# Altium schematic symbol library Module.SchLib: 24 symbols
Pins are listed as number, name and electrical type; pins without a type are passive.

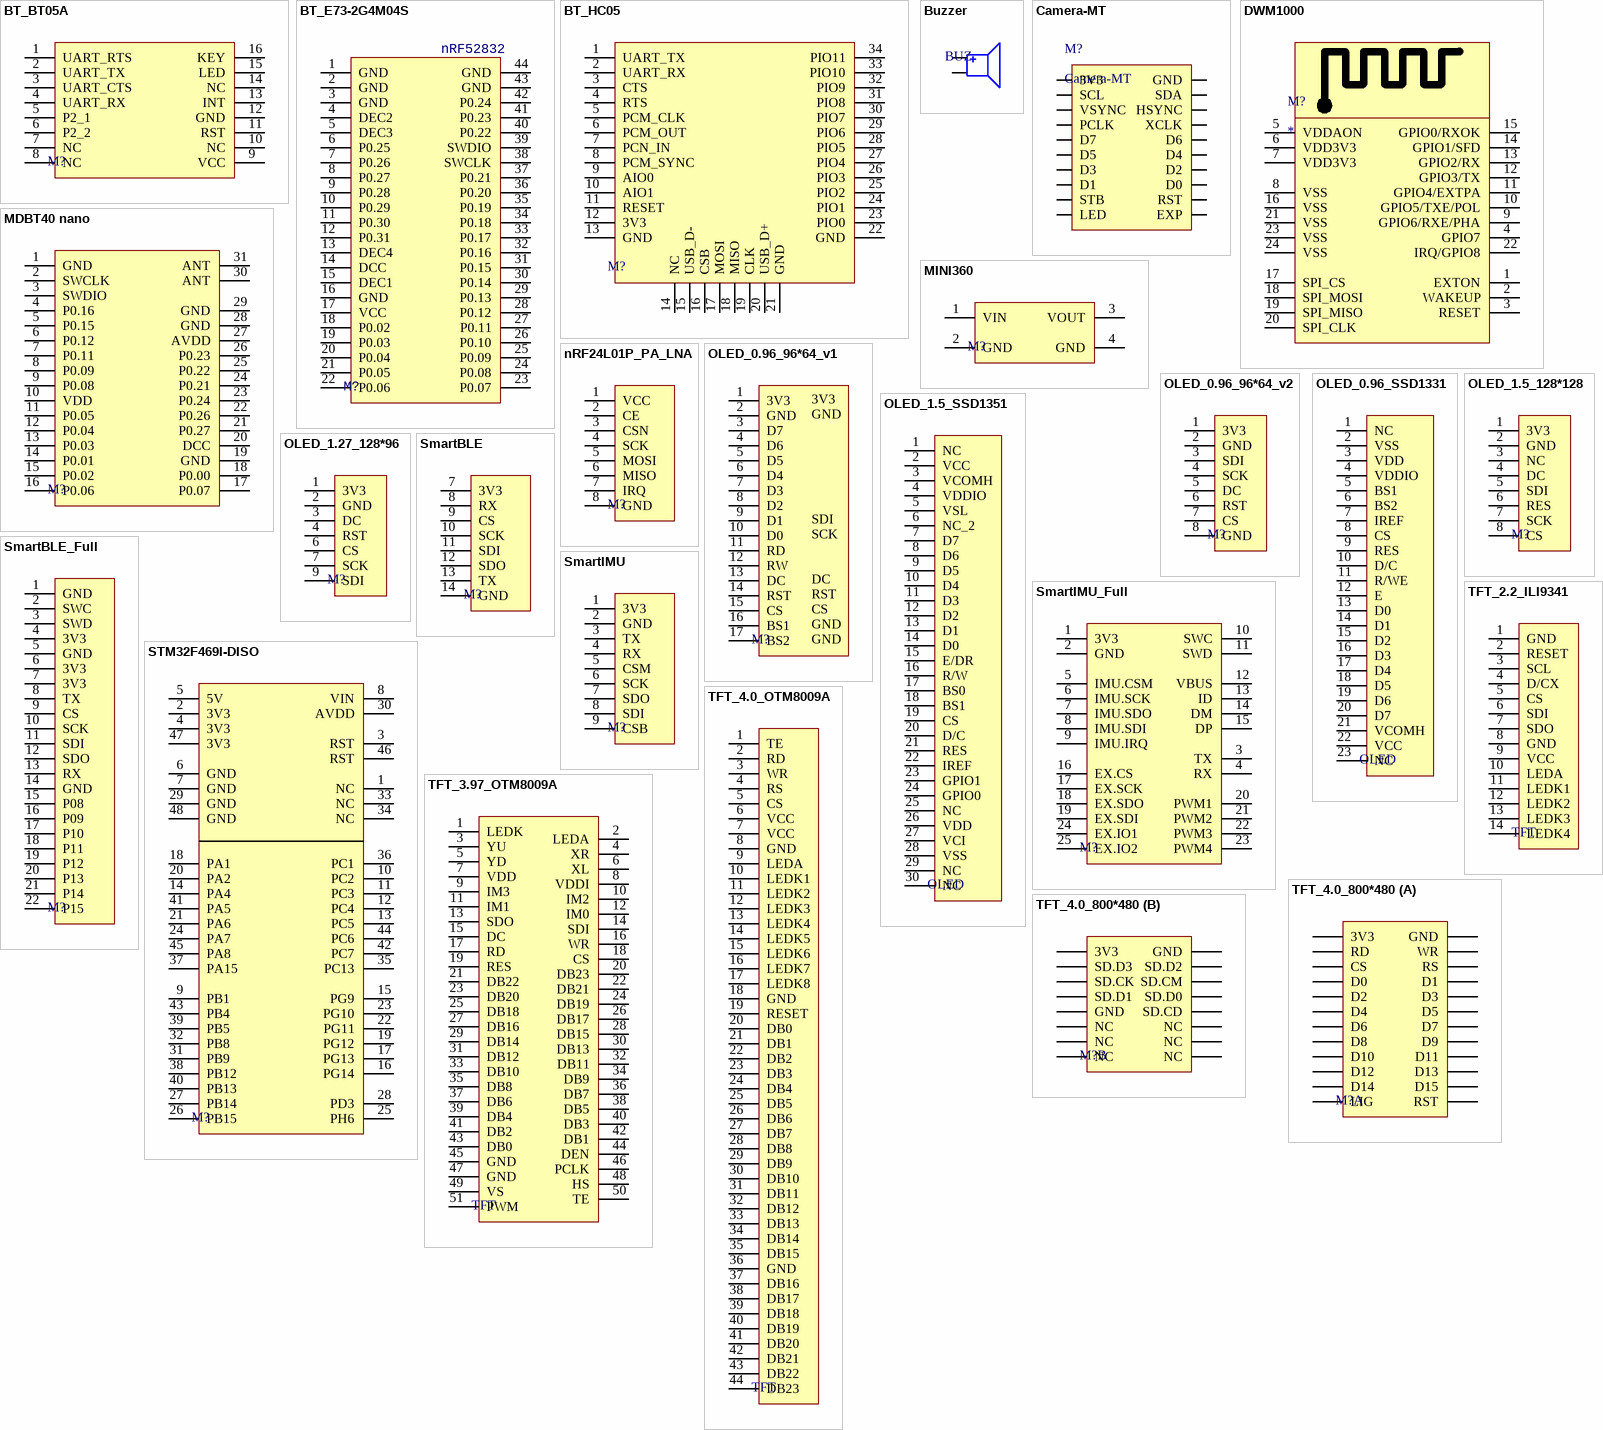
[diagram p0: symbols BT_BT05A to TFT_4.0_OTM8009A]

## BT_BT05A
designator M?  (value not drawn)
Module
footprint BT_BT05A
pins: 1 UART_RTS, 2 UART_TX, 3 UART_CTS, 4 UART_RX, 5 P2_1, 6 P2_2, 7 NC, 8 NC, 9 VCC, 10 NC, 11 RST, 12 GND, 13 INT, 14 NC, 15 LED, 16 KEY

## BT_E73-2G4M04S
designator M?  value nRF52832  (hidden comment: BT_E73-2G4M04S)
Module
footprint E73-2G4M04S
pins: 1 GND, 2 GND, 3 GND, 4 DEC2, 5 DEC3, 6 P0.25, 7 P0.26, 8 P0.27, 9 P0.28, 10 P0.29, 11 P0.30, 12 P0.31, 13 DEC4, 14 DCC, 15 DEC1, 16 GND, 17 VCC, 18 P0.02, 19 P0.03, 20 P0.04, 21 P0.05, 22 P0.06, 23 P0.07, 24 P0.08, 25 P0.09, 26 P0.10, 27 P0.11, 28 P0.12, 29 P0.13, 30 P0.14, 31 P0.15, 32 P0.16, 33 P0.17, 34 P0.18, 35 P0.19, 36 P0.20, 37 P0.21, 38 SWCLK, 39 SWDIO, 40 P0.22, 41 P0.23, 42 P0.24, 43 GND, 44 GND

## BT_HC05
designator M?  (value not drawn)
Module
footprint BT_HC05
pins: 1 UART_TX, 2 UART_RX, 3 CTS, 4 RTS, 5 PCM_CLK, 6 PCM_OUT, 7 PCN_IN, 8 PCM_SYNC, 9 AIO0, 10 AIO1, 11 RESET, 12 3V3, 13 GND, 14 NC, 15 USB_D-, 16 CSB, 17 MOSI, 18 MISO, 19 CLK, 20 USB_D+, 21 GND, 22 GND, 23 PIO0, 24 PIO1, 25 PIO2, 26 PIO3, 27 PIO4, 28 PIO5, 29 PIO6, 30 PIO7, 31 PIO8, 32 PIO9, 33 PIO10, 34 PIO11

## Buzzer
designator BUZ  (value not drawn)
footprint Buzzer_5x5
pins: N Negative, P Positive

## Camera-MT
designator M?
Module
footprint Camera-MT
pins: 1 3V3, 2 GND, 3 SCL, 4 SDA, 5 VSYNC, 6 HSYNC, 7 PCLK, 8 XCLK, 9 D7, 10 D6, 11 D5, 12 D4, 13 D3, 14 D2, 15 D1, 16 D0, 17 STB, 18 RST, 19 LED, 20 EXP

## DWM1000
designator M?
Module; Manufacturer: Decawave Limited; Manufacturer Part Number: DWM1000; Frequency: 3.5GHz ~ 6.5GHz; Data Rate: 6.8Mbps; Serial Interfaces: SPI; Antenna Type: Integrated, Chip; Voltage - Supply: 2.8 V ~ 3.6 V; Current - Receiving: 64mA; Current - Transmitting: 31mA; Supplier 1: Digi-Key; RoHS: RoHS Compliant; Category: RF/IF and RFID; Stock 1: 1028; Pricing 1: 1=32.16, 10=26.704, 100=24.24, 250=22.51296 (USD); Packaging: Cut Tape (CT); RF Family/Standard: 802.15.4; Protocol: -; Modulation: -; Power - Output: -; Sensitivity: -; Memory Size: -; Mounting Type: Surface Mount; Operating Temperature: -40°C ~ 85°C; Package / Case: Module; ComponentLink1URL: http://www.decawave.com/sites/default/files/product-pdf/dwm1000-product-brief.pdf; ComponentLink1Description: http://www.decawave.com/sites/default/files/product-pdf/dwm1000-product-brief.pdf; Supplier Part Number 1: 1479-1002-1-ND
footprint DWM1000
pins: 1 EXTON, 2 WAKEUP, 3 RESET, 4 GPIO7, 5 VDDAON, 6 VDD3V3, 7 VDD3V3, 8 VSS, 9 GPIO6/RXE/PHA, 10 GPIO5/TXE/POL, 11 GPIO4/EXTPA, 12 GPIO3/TX, 13 GPIO2/RX, 14 GPIO1/SFD, 15 GPIO0/RXOK, 16 VSS, 17 SPI_CS, 18 SPI_MOSI, 19 SPI_MISO, 20 SPI_CLK, 21 VSS, 22 IRQ/GPIO8, 23 VSS, 24 VSS

## MDBT40 nano
designator M?  (value not drawn)
Module
footprint MDBT40 nano
pins: 1 GND, 2 SWCLK, 3 SWDIO, 4 P0.16, 5 P0.15, 6 P0.12, 7 P0.11, 8 P0.09, 9 P0.08, 10 VDD, 11 P0.05, 12 P0.04, 13 P0.03, 14 P0.01, 15 P0.02, 16 P0.06, 17 P0.07, 18 P0.00, 19 GND, 20 DCC, 21 P0.27, 22 P0.26, 23 P0.24, 24 P0.21, 25 P0.22, 26 P0.23, 27 AVDD, 28 GND, 29 GND, 30 ANT, 31 ANT

## MINI360
designator M?  (value not drawn)
Module
footprint MINI360
pins: 1 VIN, 2 GND, 3 VOUT, 4 GND

## nRF24L01P_PA_LNA
designator M?  (value not drawn)
Module
footprint NRF24L01P_PA_LNA
pins: 1 VCC, 2 CE, 3 CSN, 4 SCK, 5 MOSI, 6 MISO, 7 IRQ, 8 GND

## OLED_0.96_96*64_v1
designator M?, comment OLED_0.96  (value not drawn)
Module
footprint OLED_0.96_96x64_v1
pins: 1 3V3, 2 GND, 3 D7, 4 D6, 5 D5, 6 D4, 7 D3, 8 D2, 9 D1, 10 D0, 11 RD, 12 RW, 13 DC, 14 RST, 15 CS, 16 BS1, 17 BS2
text: SDI; SCK

## OLED_0.96_96*64_v2
designator M?, comment OLED_0.96  (value not drawn)
Module
footprint OLED_0.96_96x64_v2
pins: 1 3V3, 2 GND, 3 SDI, 4 SCK, 5 DC, 6 RST, 7 CS, 8 GND

## OLED_0.96_SSD1331
designator OLED  (value not drawn)
OLED
footprint OLED_0.96_96x64_SSD1331
pins: 1 NC, 2 VSS, 3 VDD, 4 VDDIO, 5 BS1, 6 BS2, 7 IREF, 8 CS, 9 RES, 10 D/C, 11 R/WE, 12 E, 13 D0, 14 D1, 15 D2, 16 D3, 17 D4, 18 D5, 19 D6, 20 D7, 21 VCOMH, 22 VCC, 23 NC

## OLED_1.5_128*128
designator M?  (value not drawn)
Module
footprint OLED_1.5_128x128
pins: 1 3V3, 2 GND, 3 NC, 4 DC, 5 SDI, 6 RES, 7 SCK, 8 CS

## OLED_1.5_SSD1351
designator OLED  (value not drawn)
OLED
footprint OLED_1.5_128x128_SSD1351
pins: 1 NC, 2 VCC, 3 VCOMH, 4 VDDIO, 5 VSL, 6 NC_2, 7 D7, 8 D6, 9 D5, 10 D4, 11 D3, 12 D2, 13 D1, 14 D0, 15 E/DR, 16 R/W, 17 BS0, 18 BS1, 19 CS, 20 D/C, 21 RES, 22 IREF, 23 GPIO1, 24 GPIO0, 25 NC, 26 VDD, 27 VCI, 28 VSS, 29 NC, 30 NC

## OLED_1.27_128*96
designator M?  (value not drawn)
Module
footprint OLED_1.27_128x96
pins: 1 3V3, 2 GND, 3 DC, 4 RST, 6 CS, 7 SCK, 9 SDI

## SmartBLE
designator M?  (value not drawn)
Module
footprint SMART_BLE
pins: 7 3V3, 8 RX, 9 CS, 10 SCK, 11 SDI, 12 SDO, 13 TX, 14 GND

## SmartBLE_Full
designator M?  (value not drawn)
Module
footprint SMART_BLE_FULL
pins: 1 GND, 2 SWC, 3 SWD, 4 3V3, 5 GND, 6 3V3, 7 3V3, 8 TX, 9 CS, 10 SCK, 11 SDI, 12 SDO, 13 RX, 14 GND, 15 P08, 16 P09, 17 P10, 18 P11, 19 P12, 20 P13, 21 P14, 22 P15

## SmartIMU
designator M?  (value not drawn)
Module
footprint SMART_IMU
pins: 1 3V3, 2 GND, 3 TX, 4 RX, 5 CSM, 6 SCK, 7 SDO, 8 SDI, 9 CSB

## SmartIMU_Full
designator M?  (value not drawn)
Module
footprint SMART_IMU_FULL
pins: 1 3V3, 2 GND, 3 TX, 4 RX, 5 IMU.CSM, 6 IMU.SCK, 7 IMU.SDO, 8 IMU.SDI, 9 IMU.IRQ, 10 SWC, 11 SWD, 12 VBUS, 13 ID, 14 DM, 15 DP, 16 EX.CS, 17 EX.SCK, 18 EX.SDO, 19 EX.SDI, 20 PWM1, 21 PWM2, 22 PWM3, 23 PWM4, 24 EX.IO1, 25 EX.IO2

## STM32F469I-DISO
designator M?  (value not drawn)
Module
footprint STM32F469I-DISCO
pins: 1 NC, 2 3V3, 3 RST, 4 3V3, 5 5V, 6 GND, 7 GND, 8 VIN, 9 PB1, 10 PC2, 11 PC3, 12 PC4, 13 PC5, 14 PA4, 15 PG9, 16 PG14, 17 PG13, 18 PA1, 19 PG12, 20 PA2, 21 PA6, 22 PG11, 23 PG10, 24 PA7, 25 PH6, 26 PB15, 27 PB14, 28 PD3, 29 GND, 30 AVDD, 31 PB9, 32 PB8, 33 NC, 34 NC, 35 PC13, 36 PC1, 37 PA15, 38 PB12, 39 PB5, 40 PB13, 41 PA5, 42 PC7, 43 PB4, 44 PC6, 45 PA8, 46 RST, 47 3V3, 48 GND

## TFT_2.2_ILI9341
designator TFT  (value not drawn)
TFT
footprint TFT_2.2_320x240_ILI9341
pins: 1 GND, 2 RESET, 3 SCL, 4 D/CX, 5 CS, 6 SDI, 7 SDO, 8 GND, 9 VCC, 10 LEDA, 11 LEDK1, 12 LEDK2, 13 LEDK3, 14 LEDK4

## TFT_3.97_OTM8009A
designator TFT  (value not drawn)
TFT
footprint TFT_3.97_800x480_OTM8009A - duplicate
pins: 1 LEDK, 2 LEDA, 3 YU, 4 XR, 5 YD, 6 XL, 7 VDD, 8 VDDI, 9 IM3, 10 IM2, 11 IM1, 12 IM0, 13 SDO, 14 SDI, 15 DC, 16 WR, 17 RD, 18 CS, 19 RES, 20 DB23, 21 DB22, 22 DB21, 23 DB20, 24 DB19, 25 DB18, 26 DB17, 27 DB16, 28 DB15, 29 DB14, 30 DB13, 31 DB12, 32 DB11, 33 DB10, 34 DB9, 35 DB8, 36 DB7, 37 DB6, 38 DB5, 39 DB4, 40 DB3, 41 DB2, 42 DB1, 43 DB0, 44 DEN, 45 GND, 46 PCLK, 47 GND, 48 HS, 49 VS, 50 TE, 51 PWM

## TFT_4.0_800*480
designator M?, comment TFT_4.0  (value not drawn)
Module
footprint TFT_4.0_800x480
part A pins: 1 3V3, 2 GND, 3 RD, 4 WR, 5 CS, 6 RS, 7 D0, 8 D1, 9 D2, 10 D3, 11 D4, 12 D5, 13 D6, 14 D7, 15 D8, 16 D9, 17 D10, 18 D11, 19 D12, 20 D13, 21 D14, 22 D15, 23 LIG, 24 RST
part B pins: 25 3V3, 26 GND, 27 SD.D3, 28 SD.D2, 29 SD.CK, 30 SD.CM, 31 SD.D1, 32 SD.D0, 33 GND, 34 SD.CD, 35 NC, 36 NC, 37 NC, 38 NC, 39 NC, 40 NC

## TFT_4.0_OTM8009A
designator TFT  (value not drawn)
TFT
footprint TFT_4.0_800x480_OTM8009A
pins: 1 TE, 2 RD, 3 WR, 4 RS, 5 CS, 6 VCC, 7 VCC, 8 GND, 9 LEDA, 10 LEDK1, 11 LEDK2, 12 LEDK3, 13 LEDK4, 14 LEDK5, 15 LEDK6, 16 LEDK7, 17 LEDK8, 18 GND, 19 RESET, 20 DB0, 21 DB1, 22 DB2, 23 DB3, 24 DB4, 25 DB5, 26 DB6, 27 DB7, 28 DB8, 29 DB9, 30 DB10, 31 DB11, 32 DB12, 33 DB13, 34 DB14, 35 DB15, 36 GND, 37 DB16, 38 DB17, 39 DB18, 40 DB19, 41 DB20, 42 DB21, 43 DB22, 44 DB23